# EAGLE library part AOZ1021 (library mystuff)
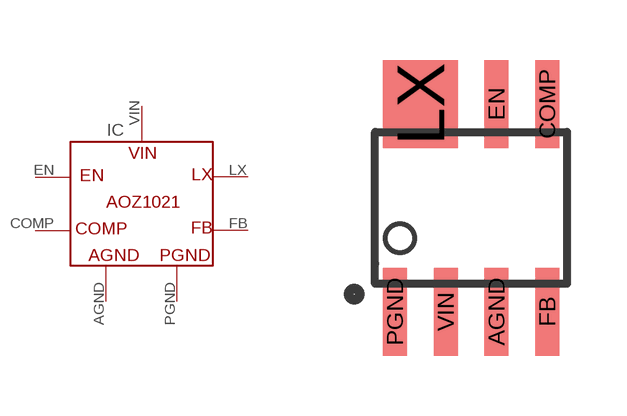
[diagram p0: symbol with the pads of AOZ1021; footprint AOZ1021]

Designator prefix IC

## AOZ1021  [AOZ1021]
AGND  AGND
COMP  COMP
EN  EN
FB  FB
LX  LX
PGND  PGND
VIN  VIN

## Footprint AOZ1021 (pad centres in mm)
smd 0.6 x 2.2: AGND 0.635,-2.6; COMP 1.905,2.6; EN 0.635,2.6; FB 1.905,-2.6; PGND -1.905,-2.6; VIN -0.635,-2.6
smd 1.87 x 2.2: LX -1.27,2.6